# Altium schematic symbol library MCP6486T-EOT.SchLib: 2 symbols
Pins are listed as number, name and electrical type; pins without a type are passive.

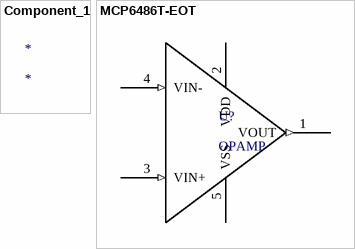
[diagram p0: symbols Component_1 to MCP6486T-EOT]

## Component_1
designator *

## MCP6486T-EOT
designator U?, comment OPAMP
Operational Amplifiers - Op Amps Single, 10MHz Op Amp, E Temp; Mfr_Name: Microchip; Manufacturer_Part_Number: MCP6486T-EOT; Copyright: Copyright (C) 2022 Ultra Librarian. All rights reserved.; RefDes: RefDes; Type: DEV
footprint SOT-23-5_MC_MCH-M
pins: 1 VOUT (out), 2 VDD (power), 3 VIN+ (in), 4 VIN- (in), 5 VSS (power)